# Altium schematic symbol library MotorDriver.SchLib: 1 symbol
Pins are listed as number, name and electrical type; pins without a type are passive.

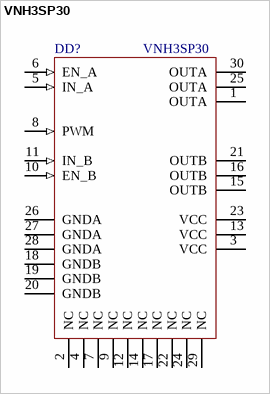
[diagram p0: symbol VNH3SP30]

## VNH3SP30
designator DD?
Automotive fully integrated H-bridge motor driver
footprint VNH3SP30 (Automotive fully integrated H-bridge motor driver)
pins: 1 OUTA (power), 2 NC, 3 VCC (power), 4 NC, 5 IN_A (in), 6 EN_A (in), 7 NC, 8 PWM (in), 9 NC, 10 EN_B (in), 11 IN_B (in), 12 NC, 13 VCC (power), 14 NC, 15 OUTB (power), 16 OUTB (power), 17 NC, 18 GNDB (power), 19 GNDB (power), 20 GNDB (power), 21 OUTB (power), 22 NC, 23 VCC (power), 24 NC, 25 OUTA (power), 26 GNDA (power), 27 GNDA (power), 28 GNDA (power), 29 NC, 30 OUTA (power)